# EAGLE library part MOLEX_USB_ (library faout)
Micro USB Connector
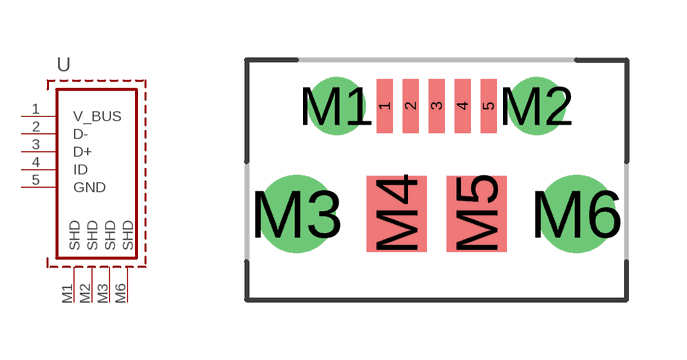
[diagram p14: symbol with the pads of MOLEX_105017-0001; footprint MOLEX_105017-0001]

Designator prefix -

## MOLEX_USB_105017-0001 (OC_FARNELL: 2293836)  [MOLEX_105017-0001]
1  V_BUS  in
2  D-  in
3  D+  in
4  ID  in
5  GND  in
M1  SHD  in
M2  SHD  in
M3  SHD  in
M6  SHD  in

## Footprint MOLEX_105017-0001 (pad centres in mm)
MICRO USB 105017-0001
smd 0.4 x 1.35: 1 -1.3,0; 2 -0.65,0; 3 0,0; 4 0.65,0; 5 1.3,0
drill 0.85 pad 1.45: M1 -2.5,0; M2 2.5,0
drill 1.3 pad 1.9: M3 -3.5,-2.7; M6 3.5,-2.7
smd 1.5 x 1.9: M4 -1,-2.7; M5 1,-2.7